# Altium schematic symbol library 4-DIP-Connectors.SchLib: 49 symbols
Pins are listed as number, name and electrical type; pins without a type are passive.

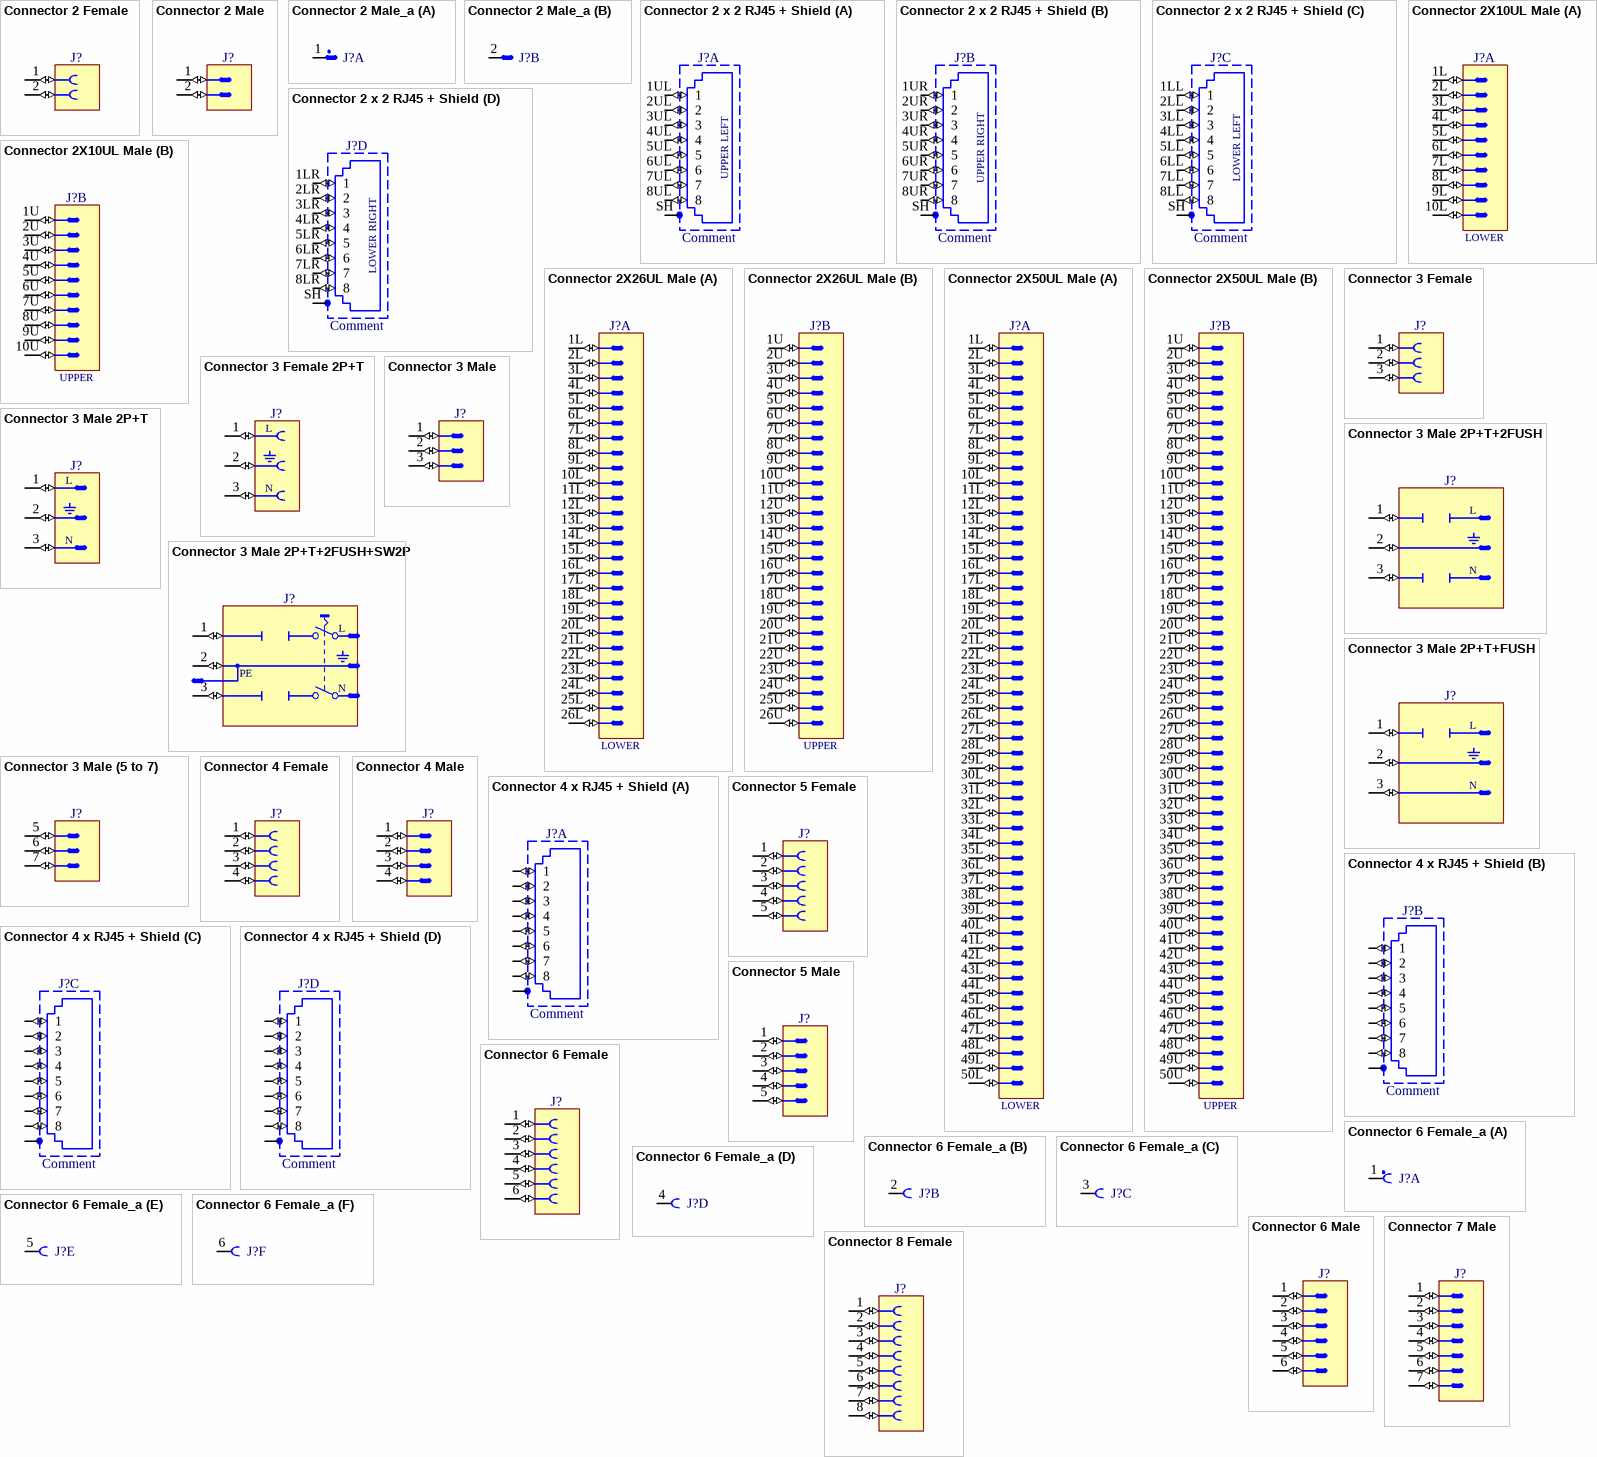
[diagram p0: symbols Connector 2 Female to Connector 8 Female]

## Connector 2 Female
designator J?, comment Comment  (value not drawn)
pins: 1 (io), 2 (io)
1 alternate drawing of the same symbol

## Connector 2 Male
designator J?, comment Comment  (value not drawn)
pins: 1 (io), 2 (io)
1 alternate drawing of the same symbol

## Connector 2 Male_a
designator J?, comment Comment  (value not drawn)
part A pins: 1 (io)
part B pins: 2 (io)

## Connector 2 x 2 RJ45 + Shield
designator J?, comment Comment
pins on every part: SH 1
part A pins: 1UL 1 (io), 2UL 2 (io), 3UL 3 (io), 4UL 4 (io), 5UL 5 (io), 6UL 6 (io), 7UL 7 (io), 8UL 8 (io)
part B pins: 1UR 1 (io), 2UR 2 (io), 3UR 3 (io), 4UR 4 (io), 5UR 5 (io), 6UR 6 (io), 7UR 7 (io), 8UR 8 (io)
part C pins: 1LL 1 (io), 2LL 2 (io), 3LL 3 (io), 4LL 4 (io), 5LL 5 (io), 6LL 6 (io), 7LL 7 (io), 8LL 8 (io)
part D pins: 1LR 1 (io), 2LR 2 (io), 3LR 3 (io), 4LR 4 (io), 5LR 5 (io), 6LR 6 (io), 7LR 7 (io), 8LR 8 (io)
part A text: UPPER LEFT
part B text: UPPER RIGHT
part C text: LOWER LEFT
part D text: LOWER RIGHT

## Connector 2X10UL Male
designator J?, comment Comment  (value not drawn)
Dual Stacked 10 Contact Male Connector
part A pins: 1L (io), 2L (io), 3L (io), 4L (io), 5L (io), 6L (io), 7L (io), 8L (io), 9L (io), 10L (io)
part B pins: 1U (io), 2U (io), 3U (io), 4U (io), 5U (io), 6U (io), 7U (io), 8U (io), 9U (io), 10U (io)
part A text: LOWER
part B text: UPPER

## Connector 2X26UL Male
designator J?, comment Comment  (value not drawn)
Dual Stacked 26 Contact Male Connector
part A pins: 1L (io), 2L (io), 3L (io), 4L (io), 5L (io), 6L (io), 7L (io), 8L (io), 9L (io), 10L (io), 11L (io), 12L (io), 13L (io), 14L (io), 15L (io), 16L (io), 17L (io), 18L (io), 19L (io), 20L (io), 21L (io), 22L (io), 23L (io), 24L (io), 25L (io), 26L (io)
part B pins: 1U (io), 2U (io), 3U (io), 4U (io), 5U (io), 6U (io), 7U (io), 8U (io), 9U (io), 10U (io), 11U (io), 12U (io), 13U (io), 14U (io), 15U (io), 16U (io), 17U (io), 18U (io), 19U (io), 20U (io), 21U (io), 22U (io), 23U (io), 24U (io), 25U (io), 26U (io)
part A text: LOWER
part B text: UPPER

## Connector 2X50UL Male
designator J?, comment Comment  (value not drawn)
Dual Stacked 50 Contact Male Connector
part A pins: 1L (io), 2L (io), 3L (io), 4L (io), 5L (io), 6L (io), 7L (io), 8L (io), 9L (io), 10L (io), 11L (io), 12L (io), 13L (io), 14L (io), 15L (io), 16L (io), 17L (io), 18L (io), 19L (io), 20L (io), 21L (io), 22L (io), 23L (io), 24L (io), 25L (io), 26L (io), 27L (io), 28L (io), 29L (io), 30L (io), 31L (io), 32L (io), 33L (io), 34L (io), 35L (io), 36L (io), 37L (io), 38L (io), 39L (io), 40L (io), 41L (io), 42L (io), 43L (io), 44L (io), 45L (io), 46L (io), 47L (io), 48L (io), 49L (io), 50L (io)
part B pins: 1U (io), 2U (io), 3U (io), 4U (io), 5U (io), 6U (io), 7U (io), 8U (io), 9U (io), 10U (io), 11U (io), 12U (io), 13U (io), 14U (io), 15U (io), 16U (io), 17U (io), 18U (io), 19U (io), 20U (io), 21U (io), 22U (io), 23U (io), 24U (io), 25U (io), 26U (io), 27U (io), 28U (io), 29U (io), 30U (io), 31U (io), 32U (io), 33U (io), 34U (io), 35U (io), 36U (io), 37U (io), 38U (io), 39U (io), 40U (io), 41U (io), 42U (io), 43U (io), 44U (io), 45U (io), 46U (io), 47U (io), 48U (io), 49U (io), 50U (io)
part A text: LOWER
part B text: UPPER

## Connector 3 Female
designator J?, comment Comment  (value not drawn)
Connector 3 Female
pins: 1 (io), 2 (io), 3 (io)
1 alternate drawing of the same symbol

## Connector 3 Female 2P+T
designator J?, comment Comment  (value not drawn)
Connector 3 Female 2P+T
pins: 1 (io), 2 (io), 3 (io)
text: L; N

## Connector 3 Male
designator J?, comment Comment  (value not drawn)
Connector 3 Male
pins: 1 (io), 2 (io), 3 (io)
1 alternate drawing of the same symbol

## Connector 3 Male 2P+T
designator J?, comment Comment  (value not drawn)
Connector 3 Male 2P+T
pins: 1 (io), 2 (io), 3 (io)
text: L; N

## Connector 3 Male 2P+T+2FUSH
designator J?, comment Comment  (value not drawn)
Connector 3 Male 2P+ 2 Fuse Holder
pins: 1 (io), 2 (io), 3 (io)
text: L; N

## Connector 3 Male 2P+T+2FUSH+SW2P
designator J?, comment Comment  (value not drawn)
Connector 3 Male 2P+ 2 Fuse Holder + Line Switch 2 Poles
pins: 1 (io), 2 (io), 3 (io)
text: L; PE; N

## Connector 3 Male 2P+T+FUSH
designator J?, comment Comment  (value not drawn)
Connector 3 Male 2P+ Fuse Holder
pins: 1 (io), 2 (io), 3 (io)
text: L; N

## Connector 3 Male (5 to 7)
designator J?, comment Comment  (value not drawn)
Connector 3 Male
pins: 5 (io), 6 (io), 7 (io)

## Connector 4 Female
designator J?, comment Comment  (value not drawn)
Connector 4 Female
pins: 1 (io), 2 (io), 3 (io), 4 (io)
1 alternate drawing of the same symbol

## Connector 4 Male
designator J?, comment Comment  (value not drawn)
Connector 4 Male
pins: 1 (io), 2 (io), 3 (io), 4 (io)
1 alternate drawing of the same symbol

## Connector 4 x RJ45 + Shield
designator J?, comment Comment
Connector 4 x RJ45 + Shield
pins on every part: SH 1
part A pins: 1A 1 (io), 2A 2 (io), 3A 3 (io), 4A 4 (io), 5A 5 (io), 6A 6 (io), 7A 7 (io), 8A 8 (io)
part B pins: 1B 1 (io), 2B 2 (io), 3B 3 (io), 4B 4 (io), 5B 5 (io), 6B 6 (io), 7B 7 (io), 8B 8 (io)
part C pins: 1C 1 (io), 2C 2 (io), 3C 3 (io), 4C 4 (io), 5C 5 (io), 6C 6 (io), 7C 7 (io), 8C 8 (io)
part D pins: 1D 1 (io), 2D 2 (io), 3D 3 (io), 4D 4 (io), 5D 5 (io), 6D 6 (io), 7D 7 (io), 8D 8 (io)

## Connector 5 Female
designator J?, comment Comment  (value not drawn)
Connector 5 Female
pins: 1 (io), 2 (io), 3 (io), 4 (io), 5 (io)
1 alternate drawing of the same symbol

## Connector 5 Male
designator J?, comment Comment  (value not drawn)
Connector 5 Male
pins: 1 (io), 2 (io), 3 (io), 4 (io), 5 (io)
1 alternate drawing of the same symbol

## Connector 6 Female
designator J?, comment Comment  (value not drawn)
Connector 6 Female
pins: 1 (io), 2 (io), 3 (io), 4 (io), 5 (io), 6 (io)
1 alternate drawing of the same symbol

## Connector 6 Female_a
designator J?, comment Comment  (value not drawn)
Connector 6 Female
part A pins: 1 (io)
part B pins: 2 (io)
part C pins: 3 (io)
part D pins: 4 (io)
part E pins: 5 (io)
part F pins: 6 (io)

## Connector 6 Male
designator J?, comment Comment  (value not drawn)
Connector 6 Male
pins: 1 (io), 2 (io), 3 (io), 4 (io), 5 (io), 6 (io)
1 alternate drawing of the same symbol

## Connector 7 Male
designator J?, comment Comment  (value not drawn)
Connector 7 Male
pins: 1 (io), 2 (io), 3 (io), 4 (io), 5 (io), 6 (io), 7 (io)
1 alternate drawing of the same symbol

## Connector 8 Female
designator J?, comment Comment  (value not drawn)
Connector 8 Female
pins: 1 (io), 2 (io), 3 (io), 4 (io), 5 (io), 6 (io), 7 (io), 8 (io)
1 alternate drawing of the same symbol

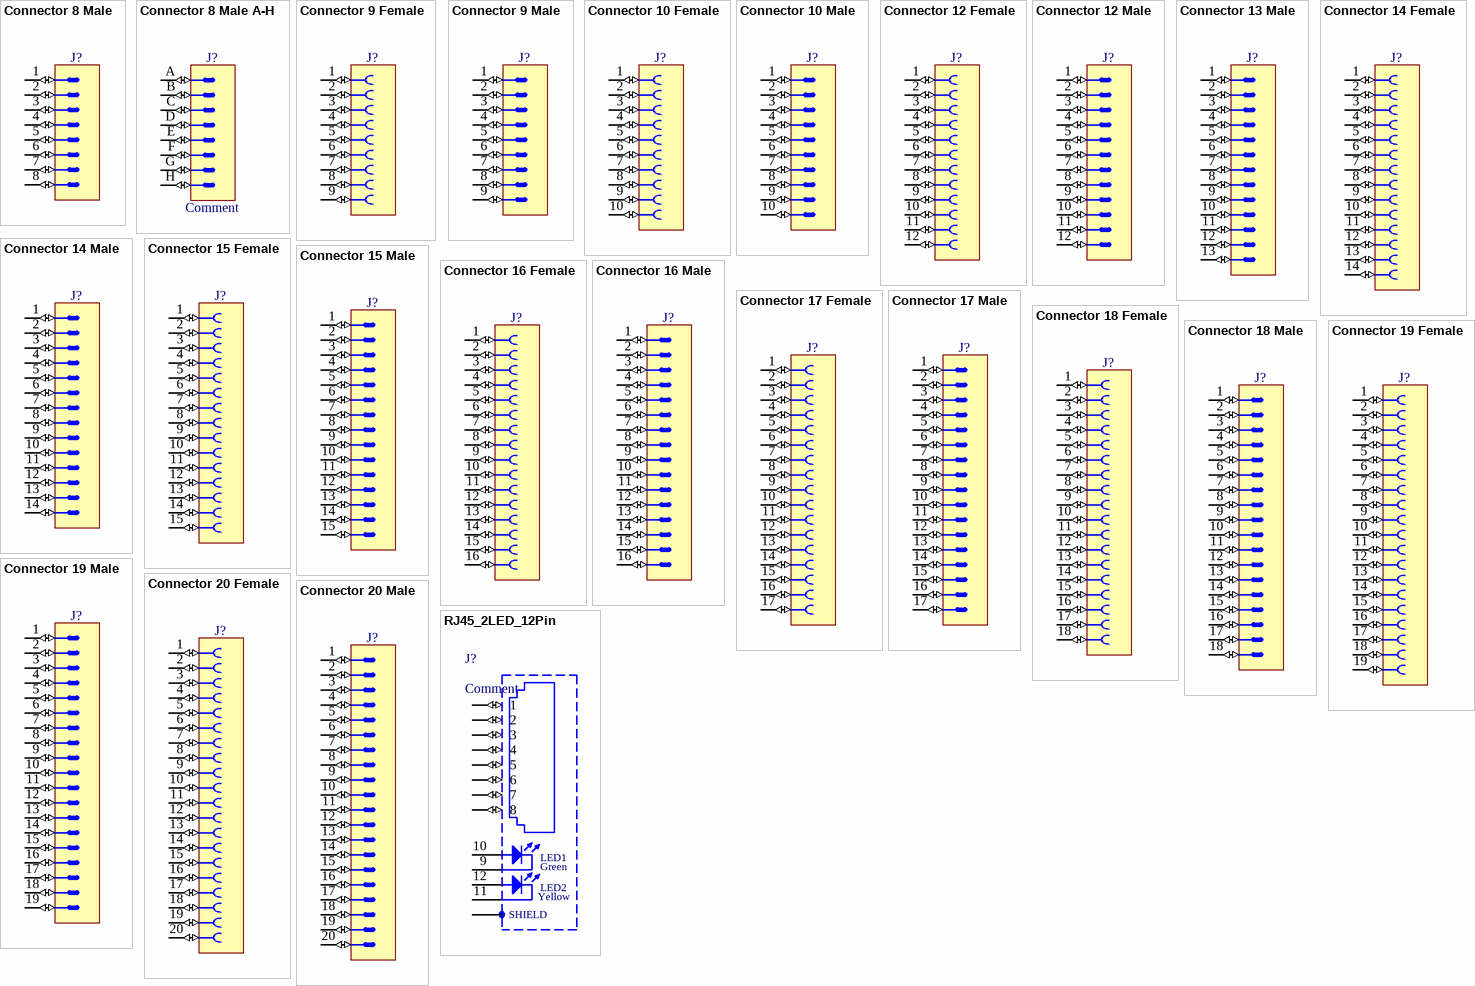
[diagram p1: symbols Connector 8 Male to RJ45_2LED_12Pin]

## Connector 8 Male
designator J?, comment Comment  (value not drawn)
Connector 8 Male
pins: 1 (io), 2 (io), 3 (io), 4 (io), 5 (io), 6 (io), 7 (io), 8 (io)
1 alternate drawing of the same symbol

## Connector 8 Male A-H
designator J?, comment Comment
Connector 8 Male A To H Contacts Numbering
pins: A (io), B (io), C (io), D (io), E (io), F (io), G (io), H (io)

## Connector 9 Female
designator J?, comment Comment  (value not drawn)
Connector 9 Female
pins: 1 (io), 2 (io), 3 (io), 4 (io), 5 (io), 6 (io), 7 (io), 8 (io), 9 (io)
1 alternate drawing of the same symbol

## Connector 9 Male
designator J?, comment Comment  (value not drawn)
Connector 9 Male
pins: 1 (io), 2 (io), 3 (io), 4 (io), 5 (io), 6 (io), 7 (io), 8 (io), 9 (io)
1 alternate drawing of the same symbol

## Connector 10 Female
designator J?, comment Comment  (value not drawn)
Connector 10 Female
pins: 1 (io), 2 (io), 3 (io), 4 (io), 5 (io), 6 (io), 7 (io), 8 (io), 9 (io), 10 (io)
1 alternate drawing of the same symbol

## Connector 10 Male
designator J?, comment Comment  (value not drawn)
Connector 10 Male
pins: 1 (io), 2 (io), 3 (io), 4 (io), 5 (io), 6 (io), 7 (io), 8 (io), 9 (io), 10 (io)
1 alternate drawing of the same symbol

## Connector 12 Female
designator J?, comment Comment  (value not drawn)
Connector 12 Female
pins: 1 (io), 2 (io), 3 (io), 4 (io), 5 (io), 6 (io), 7 (io), 8 (io), 9 (io), 10 (io), 11 (io), 12 (io)
1 alternate drawing of the same symbol

## Connector 12 Male
designator J?, comment Comment  (value not drawn)
Connector 12 Male
pins: 1 (io), 2 (io), 3 (io), 4 (io), 5 (io), 6 (io), 7 (io), 8 (io), 9 (io), 10 (io), 11 (io), 12 (io)
1 alternate drawing of the same symbol

## Connector 13 Male
designator J?, comment Comment  (value not drawn)
Connector 13 Male
pins: 1 (io), 2 (io), 3 (io), 4 (io), 5 (io), 6 (io), 7 (io), 8 (io), 9 (io), 10 (io), 11 (io), 12 (io), 13 (io)
1 alternate drawing of the same symbol

## Connector 14 Female
designator J?, comment Comment  (value not drawn)
Connector 14 Female
pins: 1 (io), 2 (io), 3 (io), 4 (io), 5 (io), 6 (io), 7 (io), 8 (io), 9 (io), 10 (io), 11 (io), 12 (io), 13 (io), 14 (io)
1 alternate drawing of the same symbol

## Connector 14 Male
designator J?, comment Comment  (value not drawn)
Connector 14 Male
pins: 1 (io), 2 (io), 3 (io), 4 (io), 5 (io), 6 (io), 7 (io), 8 (io), 9 (io), 10 (io), 11 (io), 12 (io), 13 (io), 14 (io)
1 alternate drawing of the same symbol

## Connector 15 Female
designator J?, comment Comment  (value not drawn)
Connector 15 Female
pins: 1 (io), 2 (io), 3 (io), 4 (io), 5 (io), 6 (io), 7 (io), 8 (io), 9 (io), 10 (io), 11 (io), 12 (io), 13 (io), 14 (io), 15 (io)
1 alternate drawing of the same symbol

## Connector 15 Male
designator J?, comment Comment  (value not drawn)
Connector 15 Male
pins: 1 (io), 2 (io), 3 (io), 4 (io), 5 (io), 6 (io), 7 (io), 8 (io), 9 (io), 10 (io), 11 (io), 12 (io), 13 (io), 14 (io), 15 (io)
1 alternate drawing of the same symbol

## Connector 16 Female
designator J?, comment Comment  (value not drawn)
Connector 16 Female
pins: 1 (io), 2 (io), 3 (io), 4 (io), 5 (io), 6 (io), 7 (io), 8 (io), 9 (io), 10 (io), 11 (io), 12 (io), 13 (io), 14 (io), 15 (io), 16 (io)
1 alternate drawing of the same symbol

## Connector 16 Male
designator J?, comment Comment  (value not drawn)
Connector 16 Male
pins: 1 (io), 2 (io), 3 (io), 4 (io), 5 (io), 6 (io), 7 (io), 8 (io), 9 (io), 10 (io), 11 (io), 12 (io), 13 (io), 14 (io), 15 (io), 16 (io)
1 alternate drawing of the same symbol

## Connector 17 Female
designator J?, comment Comment  (value not drawn)
Connector 17 Female
pins: 1 (io), 2 (io), 3 (io), 4 (io), 5 (io), 6 (io), 7 (io), 8 (io), 9 (io), 10 (io), 11 (io), 12 (io), 13 (io), 14 (io), 15 (io), 16 (io), 17 (io)
1 alternate drawing of the same symbol

## Connector 17 Male
designator J?, comment Comment  (value not drawn)
Connector 17 Male
pins: 1 (io), 2 (io), 3 (io), 4 (io), 5 (io), 6 (io), 7 (io), 8 (io), 9 (io), 10 (io), 11 (io), 12 (io), 13 (io), 14 (io), 15 (io), 16 (io), 17 (io)
1 alternate drawing of the same symbol

## Connector 18 Female
designator J?, comment Comment  (value not drawn)
Connector 18 Female
pins: 1 (io), 2 (io), 3 (io), 4 (io), 5 (io), 6 (io), 7 (io), 8 (io), 9 (io), 10 (io), 11 (io), 12 (io), 13 (io), 14 (io), 15 (io), 16 (io), 17 (io), 18 (io)
1 alternate drawing of the same symbol

## Connector 18 Male
designator J?, comment Comment  (value not drawn)
Connector 18 Male
pins: 1 (io), 2 (io), 3 (io), 4 (io), 5 (io), 6 (io), 7 (io), 8 (io), 9 (io), 10 (io), 11 (io), 12 (io), 13 (io), 14 (io), 15 (io), 16 (io), 17 (io), 18 (io)
1 alternate drawing of the same symbol

## Connector 19 Female
designator J?, comment Comment  (value not drawn)
Connector 19 Female
pins: 1 (io), 2 (io), 3 (io), 4 (io), 5 (io), 6 (io), 7 (io), 8 (io), 9 (io), 10 (io), 11 (io), 12 (io), 13 (io), 14 (io), 15 (io), 16 (io), 17 (io), 18 (io), 19 (io)
1 alternate drawing of the same symbol

## Connector 19 Male
designator J?, comment Comment  (value not drawn)
Connector 19 Male
pins: 1 (io), 2 (io), 3 (io), 4 (io), 5 (io), 6 (io), 7 (io), 8 (io), 9 (io), 10 (io), 11 (io), 12 (io), 13 (io), 14 (io), 15 (io), 16 (io), 17 (io), 18 (io), 19 (io)
1 alternate drawing of the same symbol

## Connector 20 Female
designator J?, comment Comment  (value not drawn)
Connector 20 Female
pins: 1 (io), 2 (io), 3 (io), 4 (io), 5 (io), 6 (io), 7 (io), 8 (io), 9 (io), 10 (io), 11 (io), 12 (io), 13 (io), 14 (io), 15 (io), 16 (io), 17 (io), 18 (io), 19 (io), 20 (io)
1 alternate drawing of the same symbol

## Connector 20 Male
designator J?, comment Comment  (value not drawn)
Connector 20 Male
pins: 1 (io), 2 (io), 3 (io), 4 (io), 5 (io), 6 (io), 7 (io), 8 (io), 9 (io), 10 (io), 11 (io), 12 (io), 13 (io), 14 (io), 15 (io), 16 (io), 17 (io), 18 (io), 19 (io), 20 (io)
1 alternate drawing of the same symbol

## RJ45_2LED_12Pin
designator J?, comment Comment
pins: 1 (io), 2 (io), 3 (io), 4 (io), 5 (io), 6 (io), 7 (io), 8 (io), 9, 10, 11, 12, SHIELD
text: LED1; Green; LED2; Yellow